# Altium schematic symbol library CRCW20102K00FKEF.schlib: 1 symbol
Pins are listed as number, name and electrical type; pins without a type are passive.

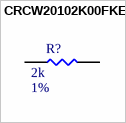
[diagram p0: symbol CRCW20102K00FKEF]

## CRCW20102K00FKEF
designator R?  Tolerance: 1%  Resistance: 2k  (hidden comment: CRCW20102K00FKEF)
RES SMD 2K OHM 1% 3/4W 2010; MFR: Vishay; Qualifications: Automotive Grade; ComponentLink1Description: Datasheet; ComponentLink1URL: https://www.mouser.ca/datasheet/2/427/dcrcwe3-1762152.pdf; Footprint: RES2010; PN: CRCW20102K00FKEF; Power Rating: 3/4W; Package: 2010; Supplier 1: Digi-Key; Supplier Part Number 1: 541-2.00KACCT-ND
footprint RES2010 (Generic 2010 Footprint)
pins: 1, 2